# EAGLE library part 101-00303 (library amphenol_101-00303_usd)
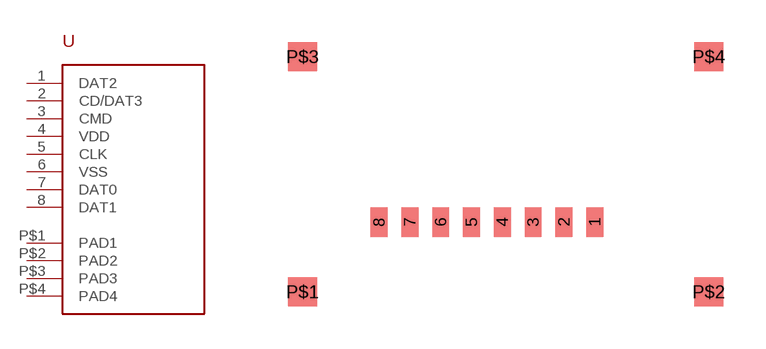
[diagram p0: symbol with the pads of AMPHENOL_USD; footprint AMPHENOL_USD]

Designator prefix -

## 101-00303  [AMPHENOL_USD]
1  DAT2
2  CD/DAT3
3  CMD
4  VDD
5  CLK
6  VSS
7  DAT0
8  DAT1
P$1  PAD1
P$2  PAD2
P$3  PAD3
P$4  PAD4

## Footprint AMPHENOL_USD (pad centres in mm)
smd 0.6 x 1.05: 1 10.43,2.49; 2 9.33,2.49; 3 8.23,2.49; 4 7.13,2.49; 5 6.03,2.49; 6 4.93,2.49; 7 3.83,2.49; 8 2.73,2.49
smd 1.05 x 1.05: P$1 0,0; P$2 14.5,0; P$3 0,8.4; P$4 14.5,8.4